# Altium footprint library TO-92-TO92127P495H2044-3.PcbLib: 1 footprints
Each footprint in its own frame and in the unit in brackets; x right, y up, seen from the top. Pads: shape width x height; smd on the part's side, far side on the other; paste and mask are expansions set on the pad; w line width, h text height; cw(c..) or ccw(c..) is an arc to the next point about the centre after c.
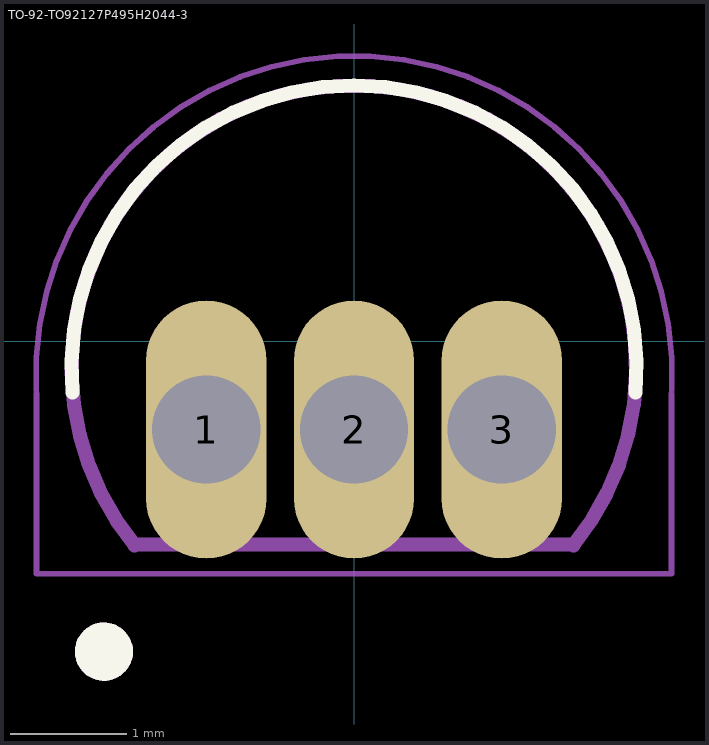
[diagram p0: the footprint, top view; thin cyan lines are the x and y axes]

## TO-92-TO92127P495H2044-3 [mm]
pads (3):
  oval 1.034x2.22 hole 0.93: 1(-1.27,-0.76) 2(0,-0.76) 3(1.27,-0.76)
Top Overlay:
  circle w0.25: c-2.15,-2.67 r0.125
  lines w0.12: -2.421,-0.444 cw(c0,-0.232) 2.421,-0.444
Mechanical 13:
  circle w0.25: c-2.15,-2.67 r0.125
  lines w0.12: -1.893,-1.748 1.892,-1.748 ; -1.886,-1.756 cw(c-0.001,-0.229) 1.885,-1.756
Mechanical 15:
  lines w0.05: -2.731,-0.426 cw(c0,-0.283) 2.731,-0.426 ; -2.73,-0.45 -2.73,-2 2.73,-2 2.73,-0.45
3D body "step_temp.STEP": height 19.43, standoff -1.02, extent -2.371,-2.067 2.199,1.552